# EAGLE library part SCREW_X6 (library mesoprint)
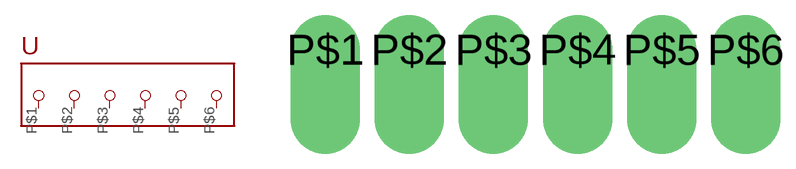
[diagram p0: symbol with the pads of SCREW_X6; footprint SCREW_X6]

Designator prefix -

## SCREW_X6  [SCREW_X6]
P$1  P$1
P$2  P$2
P$3  P$3
P$4  P$4
P$5  P$5
P$6  P$6

## Footprint SCREW_X6 (pad centres in mm)
drill 1.4 offset: P$1 -6.35,0; P$2 -3.81,0; P$3 -1.27,0; P$4 1.27,0; P$5 3.81,0; P$6 6.35,0